# Altium schematic symbol library AltuimSTM32_ExamplePCB.SCHLIB: 7 symbols
Pins are listed as number, name and electrical type; pins without a type are passive.

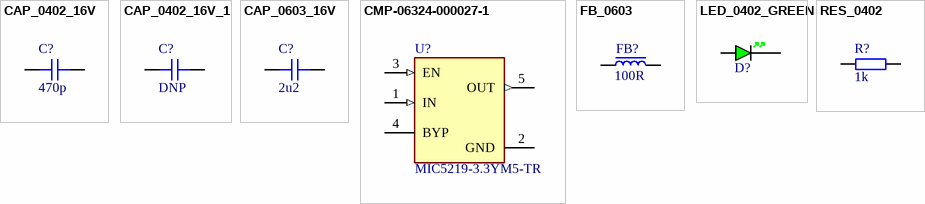
[diagram p0: symbols CAP_0402_16V to RES_0402]

## CAP_0402_16V
designator C?, comment 470p
Capacitor SMD 0402 16V
footprint CAP_0402
pins: 1, 2

## CAP_0402_16V_1
designator C?, comment DNP
Capacitor SMD 0402 16V
footprint CAP_0402
pins: 1, 2

## CAP_0603_16V
designator C?, comment 2u2
Capacitor SMD 0603 16V
footprint CAP_0603
pins: 1, 2

## CMP-06324-000027-1
designator U?, comment MIC5219-3.3YM5-TR
IC REG LINEAR 3.3V 500MA SOT23-5; Dropout Voltage: 350mV; Output Type: Fixed; Number of Regulators: 1; Max Input Voltage: 12V; Min Input Voltage: 2.5V; Min Operating Temperature: -40°C; Nominal Output Voltage: 3.3V; Output Voltage: 3.3V; Packaging: Cut Tape; Mount: Surface Mount; Number of Pins: 5; Case/Package: SOT-23-5; Lead Free: Lead Free; Max Operating Temperature: 125°C; REACH SVHC: No SVHC; Output Current: 500mA
footprint FP-SOT23-5LD-PL-1-IPC_C
footprint FP-SOT23-5LD-PL-1-IPC_B
footprint FP-SOT23-5LD-PL-1-IPC_A
footprint FP-SOT23-5LD-PL-1-MFG
pins: 1 IN (in), 2 GND (power), 3 EN (in), 4 BYP, 5 OUT (out)

## FB_0603
designator FB?, comment 100R
Ferrite Bead SMD 0603
footprint FB_0603 (Ferrite Bead 0603)
pins: 1, 2

## LED_0402_GREEN
designator D?, comment GREEN  (value not drawn)
LED 0402 GREEN SMD
footprint LED_0402_GREEN
pins: A, K

## RES_0402
designator R?, comment 1k
Resistor SMD 0402
footprint RES_0402
pins: 1, 2